# Altium footprint library CON DF12-40-3.5.PcbLib: 1 footprints
Each footprint in its own frame and in the unit in brackets; x right, y up, seen from the top. Pads: shape width x height; smd on the part's side, far side on the other; paste and mask are expansions set on the pad; w line width, h text height; cw(c..) or ccw(c..) is an arc to the next point about the centre after c.
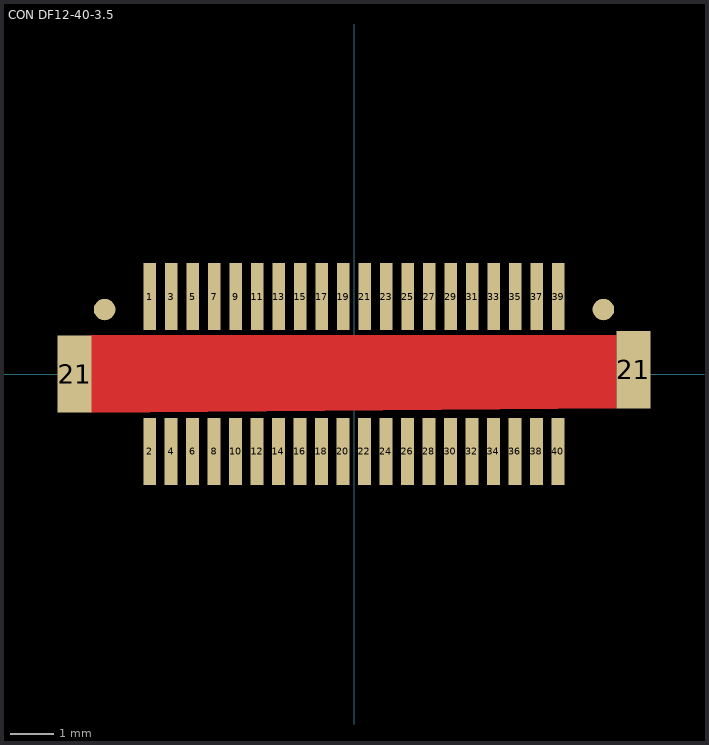
[diagram p0: the footprint, top view; thin cyan lines are the x and y axes]

## CON DF12-40-3.5 [mm]
height 9.906
pads (44):
  rect 0.3x1.56 smd: 1(-4.75,1.8) 2(-4.75,-1.8) 3(-4.25,1.8) 4(-4.256,-1.8) 5(-3.75,1.8) 6(-3.756,-1.8) 7(-3.25,1.8) 8(-3.256,-1.8) 9(-2.75,1.8) 10(-2.756,-1.8) 11(-2.25,1.8) 12(-2.256,-1.8) 13(-1.75,1.8) 14(-1.756,-1.8) 15(-1.25,1.8) 16(-1.256,-1.8) 17(-0.75,1.8) 18(-0.756,-1.8) 19(-0.25,1.8) 20(-0.256,-1.8) 21(0.25,1.8) 22(0.244,-1.8) 23(0.75,1.8) 24(0.744,-1.8) 25(1.25,1.8) 26(1.244,-1.8) 27(1.75,1.8) 28(1.744,-1.8) 29(2.25,1.8) 30(2.244,-1.8) 31(2.75,1.8) 32(2.744,-1.8) 33(3.25,1.8) 34(3.244,-1.8) 35(3.75,1.8) 36(3.744,-1.8) 37(4.25,1.8) 38(4.244,-1.8) 39(4.75,1.8) 40(4.744,-1.8)
  rect 0.8x1.8 smd: 21(-6.5,0) 21(6.5,0.1)
  round 0.5 all layers, no hole: ""(-5.8,1.5) ""(5.8,1.5)
TopLayer:
  pour cut-out: -6.106,0.9 6.094,0.9 6.094,-0.8 -6.106,-0.9